# EAGLE library part SLC_OEM (library toyotune)
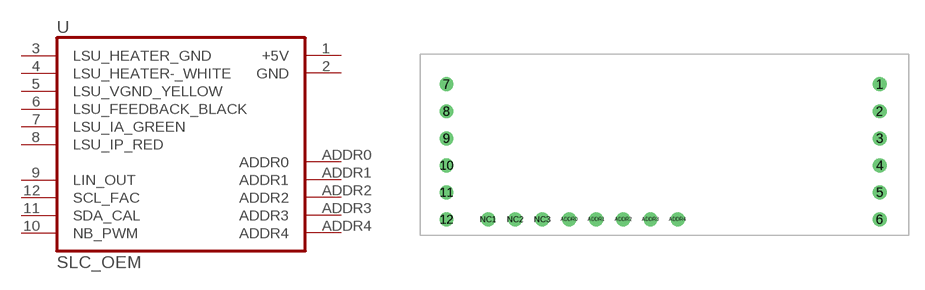
[diagram p32: symbol with the pads of SLC_OEM; footprint SLC_OEM]

Designator prefix -

## SLC_OEM  [SLC_OEM]
1  +5V
2  GND
3  LSU_HEATER_GND
4  LSU_HEATER-_WHITE
5  LSU_VGND_YELLOW
6  LSU_FEEDBACK_BLACK
7  LSU_IA_GREEN
8  LSU_IP_RED
9  LIN_OUT
10  NB_PWM
11  SDA_CAL
12  SCL_FAC
ADDR0  ADDR0
ADDR1  ADDR1
ADDR2  ADDR2
ADDR3  ADDR3
ADDR4  ADDR4

## Footprint SLC_OEM (pad centres in mm)
drill 0.8: 1 20.76,5.75; 2 20.76,3.21; 3 20.76,0.67; 4 20.76,-1.87; 5 20.76,-4.41; 6 20.76,-6.95; 7 -19.88,5.75; 8 -19.88,3.21; 9 -19.88,0.67; 10 -19.88,-1.87; 11 -19.88,-4.41; 12 -19.88,-6.95; ADDR0 -8.36,-6.94; ADDR1 -5.82,-6.94; ADDR2 -3.28,-6.94; ADDR3 -0.74,-6.94; ADDR4 1.8,-6.94; NC1 -15.98,-6.94; NC2 -13.44,-6.94; NC3 -10.9,-6.94